# EAGLE library part LT3650EMSE-8.4#PBF (library LT3650EMSE-8.4#PBF)
Battery Management High Voltage 2 Amp Monolithic 2-Cell Li-Ion Battery Charger Source: Datasheet <http://www.analog.com/media/en/technical-documentation/data-sheets/36508284fd.pdf>
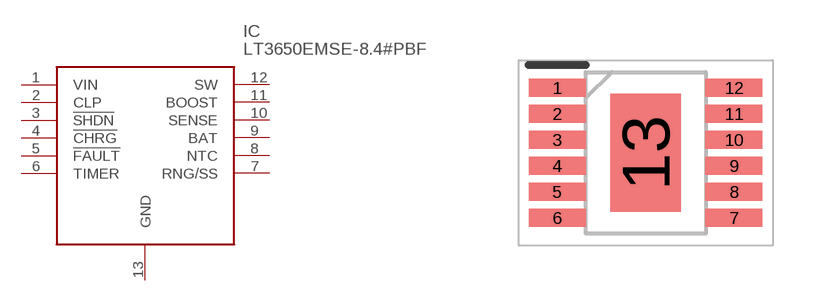
[diagram p0: symbol with the pads of SOP65P490X110-13N; footprint SOP65P490X110-13N]

Designator prefix IC

## LT3650EMSE-8.4#PBF (Description: Battery Management High Voltage 2 Amp Monolithic 2-Cell Li-Ion Battery Charger; Height: 1.1mm; Manufacturer_Name: Linear Technology; Manufacturer_Part_Number: LT3650EMSE-8.4#PBF; Mouser_Part_Number: 584-3650EMSE-8.4PBF; Mouser_Price-Stock: https://www.mouser.com/Search/Refine.aspx?Keyword=584-3650EMSE-8.4PBF)  [SOP65P490X110-13N]
1  VIN
2  CLP
3  !SHDN
4  !CHRG
5  !FAULT
6  TIMER
7  RNG/SS
8  NTC
9  BAT
10  SENSE
11  BOOST
12  SW
13  GND

## Footprint SOP65P490X110-13N (pad centres in mm)
MSE Package 12-Lead Plastic MSOP, Exposed Die Pad
smd 1.425 x 0.45: 1 -2.212,1.625; 2 -2.212,0.975; 3 -2.212,0.325; 4 -2.212,-0.325; 5 -2.212,-0.975; 6 -2.212,-1.625; 7 2.212,-1.625; 8 2.212,-0.975; 9 2.212,-0.325; 10 2.212,0.325; 11 2.212,0.975; 12 2.212,1.625
smd 1.753 x 2.947: 13 0,0